# Altium footprint library HX1188NLT.PcbLib: 1 footprints
Each footprint in its own frame and in the unit in brackets; x right, y up, seen from the top. Pads: shape width x height; smd on the part's side, far side on the other; paste and mask are expansions set on the pad; w line width, h text height; cw(c..) or ccw(c..) is an arc to the next point about the centre after c.
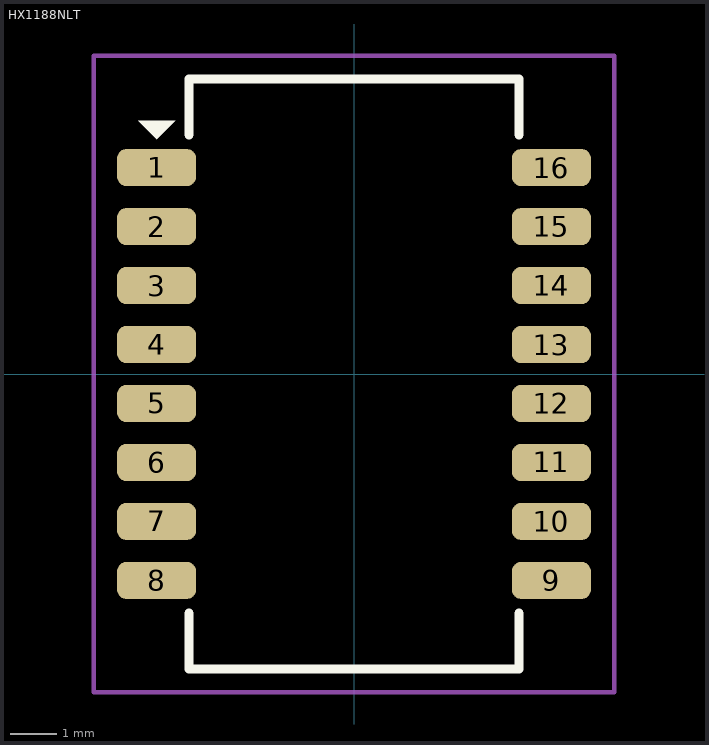
[diagram p0: the footprint, top view; thin cyan lines are the x and y axes]

## HX1188NLT [mm]
pads (16):
  rrect50% 1.7x0.8 smd: 1(-4.25,4.445) 2(-4.25,3.175) 3(-4.25,1.905) 4(-4.25,0.635) 5(-4.25,-0.635) 6(-4.25,-1.905) 7(-4.25,-3.175) 8(-4.25,-4.445) 9(4.25,-4.445) 10(4.25,-3.175) 11(4.25,-1.905) 12(4.25,-0.635) 13(4.25,0.635) 14(4.25,1.905) 15(4.25,3.175) 16(4.25,4.445)
Top Overlay:
  region: -4.65,5.45 -3.85,5.45 -4.25,5.05
  lines w0.2: -3.55,-5.15 -3.55,-6.35 3.55,-6.35 3.55,-5.15 ; -3.55,5.15 -3.55,6.35 3.55,6.35 3.55,5.15
Top Courtyard:
  lines w0.1: -5.6,-6.85 -3.55,-6.85 5.6,-6.85 5.6,6.85 -5.6,6.85 -5.6,-6.85
3D body "HX1188NL_3D.STEP": height 6.07, standoff 0.1, extent -4.699,-6.35 4.699,6.35